# Altium footprint library microusb.PcbLib: 1 footprints
Each footprint in its own frame and in the unit in brackets; x right, y up, seen from the top. Pads: shape width x height; smd on the part's side, far side on the other; paste and mask are expansions set on the pad; w line width, h text height; cw(c..) or ccw(c..) is an arc to the next point about the centre after c.
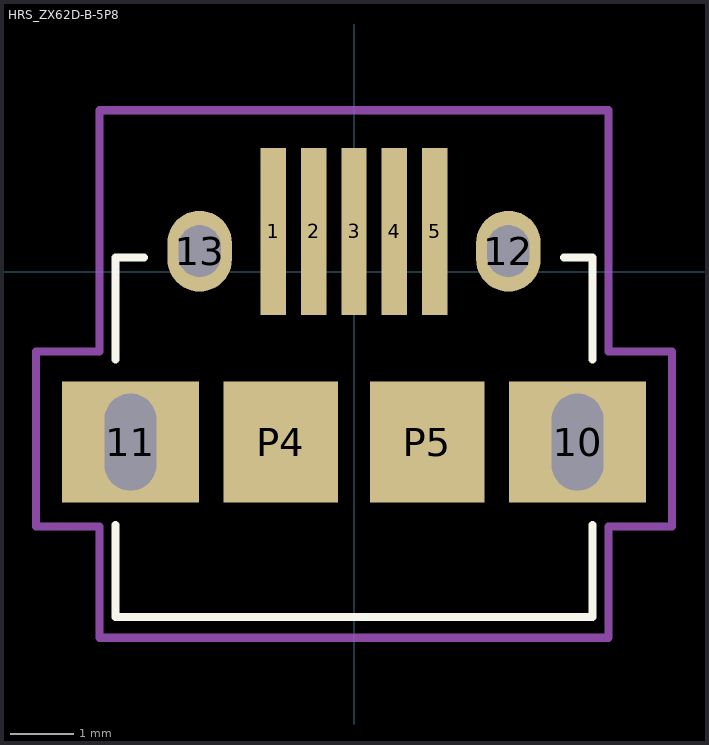
[diagram p0: the footprint, top view; thin cyan lines are the x and y axes]

## HRS_ZX62D-B-5P8 [mm]
pads (11):
  rect 0.4x2.62 smd: 1(-1.27,0.635) 2(-0.635,0.635) 3(0,0.635) 4(0.635,0.635) 5(1.27,0.635)
  rect 2.159x1.905 hole 0.813 slot 1.524 at 90 deg: 10(3.512,-2.675) 11(-3.512,-2.675)
  oval 1.016x1.27 hole 0.66 slot 0.813 at 90 deg: 12(2.425,0.325) 13(-2.425,0.325)
  rect 1.8x1.9 smd: P4(-1.15,-2.675) P5(1.15,-2.675)
Top Overlay:
  lines w0.127: -3.75,-3.975 -3.75,-5.425 3.75,-5.425 3.75,-3.975 ; -3.75,-1.375 -3.75,0.225 -3.3,0.225 ; 3.3,0.225 3.75,0.225 3.75,-1.375
Mechanical 1:
  lines w0.127: -5,-4 -5,-1.25 -4,-1.25 -4,2.54 -0.96,2.54 0.96,2.54 4,2.54 4,-1.25 5,-1.25 5,-4 4,-4 4,-5.75 -4,-5.75 -4,-4 -5,-4